# Altium footprint library BRye_PCBLib.PcbLib: 45 footprints (part 2 of 3)
Each footprint in its own frame and in the unit in brackets; x right, y up, seen from the top. Pads: shape width x height; smd on the part's side, far side on the other; paste and mask are expansions set on the pad; w line width, h text height; cw(c..) or ccw(c..) is an arc to the next point about the centre after c.
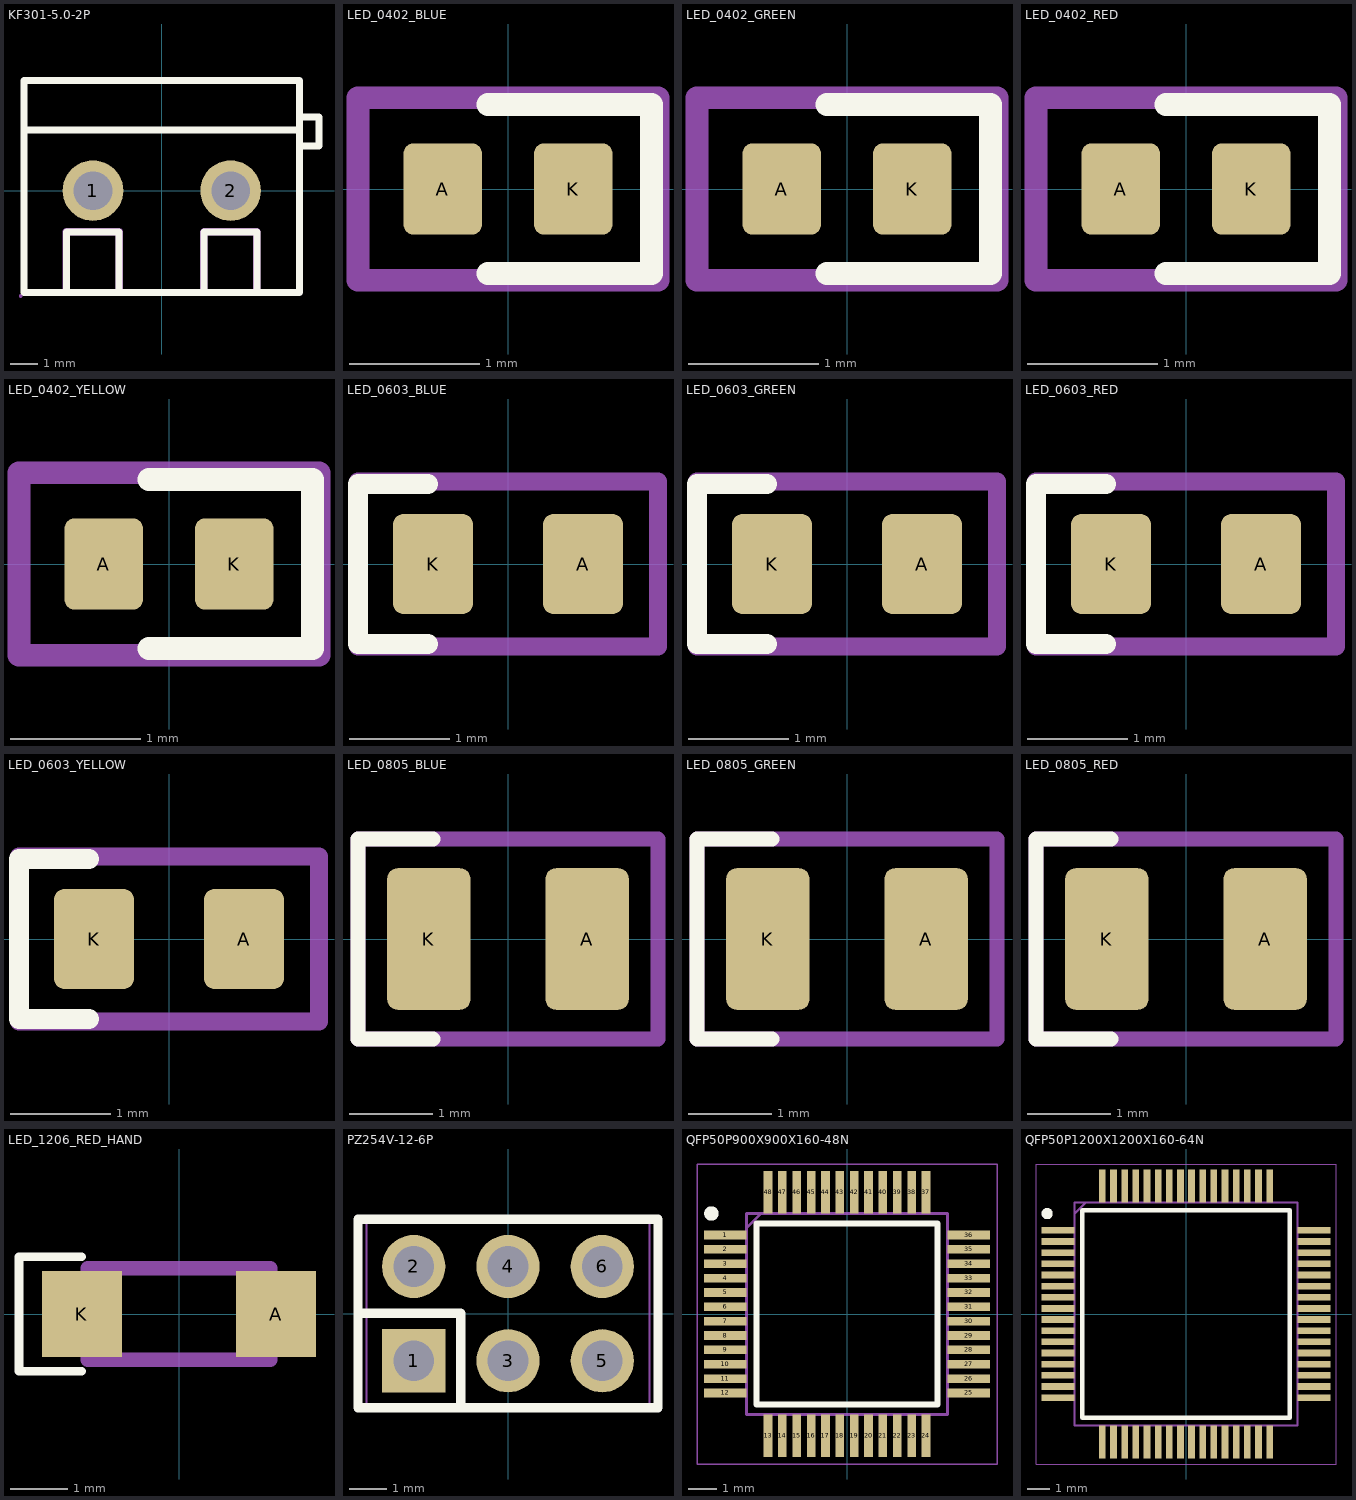
[diagram p1: the footprints below, top view; thin cyan lines are the x and y axes]

## KF301-5.0-2P [mm]
pads (2):
  round 2.2 hole 1.4 paste-2539.97 mask+0.05: 1(-2.5,0) 2(2.5,0)
Top Overlay:
  lines w0.254: -5,2.201 5,2.201 ; -3.469,-3.701 -3.469,-1.501 -1.549,-1.501 -1.549,-3.701 ; 1.53,-3.7 1.53,-1.5 3.45,-1.5 3.45,-3.7 ; 5.08,1.626 5.708,1.626 5.708,2.667 5.08,2.667 ; -5,-3.7 -5,4 5,4 5,-3.7 -5,-3.7
Mechanical 6:
  region: -3.596,-3.701 -3.596,-1.501 -3.596,-1.476 -3.577,-1.429 -3.541,-1.393 -3.494,-1.374 -3.469,-1.374 -1.549,-1.374 -1.523,-1.374 -1.477,-1.393 -1.441,-1.429 -1.422,-1.476 -1.422,-1.501 -1.422,-3.701 -1.422,-3.753 -1.496,-3.828 -1.601,-3.828 -1.676,-3.753 -1.676,-3.701 -1.676,-1.628 -3.342,-1.628 -3.342,-3.701 -3.342,-3.753 -3.416,-3.828 -3.522,-3.828 -3.596,-3.753
  region: 1.404,-3.701 1.404,-1.501 1.404,-1.476 1.423,-1.429 1.459,-1.394 1.506,-1.374 1.531,-1.374 3.451,-1.374 3.477,-1.374 3.523,-1.394 3.559,-1.429 3.578,-1.476 3.578,-1.501 3.578,-3.701 3.578,-3.753 3.504,-3.828 3.399,-3.828 3.324,-3.753 3.324,-3.701 3.324,-1.628 1.658,-1.628 1.658,-3.701 1.658,-3.753 1.584,-3.828 1.479,-3.828 1.404,-3.753
Mechanical 15:
  region: -5.067,-3.827 -5.067,-3.852 -5.102,-3.887 -5.152,-3.887 -5.187,-3.852 -5.187,-3.827 -5.187,-3.802 -5.152,-3.767 -5.102,-3.767 -5.067,-3.802
  region: 3,0 3,-0.099 2.924,-0.283 2.783,-0.424 2.599,-0.5 2.401,-0.5 2.217,-0.424 2.076,-0.283 2,-0.099 2,0 2,0.099 2.076,0.283 2.217,0.424 2.401,0.5 2.599,0.5 2.783,0.424 2.924,0.283 3,0.099
  region: -2,0 -2,-0.099 -2.076,-0.283 -2.217,-0.424 -2.401,-0.5 -2.599,-0.5 -2.783,-0.424 -2.924,-0.283 -3,-0.099 -3,0 -3,0.099 -2.924,0.283 -2.783,0.424 -2.599,0.5 -2.401,0.5 -2.217,0.424 -2.076,0.283 -2,0.099
  lines w0.051: -5,-3.6 -5,4 5,4 5,-3.6 -5,-3.6
3D body "KF301-5.0-2P--3DModel-STEP-510211.STEP": height 10, standoff -3.9, extent -5,-3.6 5,4

## LED_0402_BLUE [mm]
pads (2):
  rrect25% 0.6x0.7 smd: A(-0.5,0) K(0.5,0)
Top Overlay:
  lines w0.175: -0.153,-0.647 1.1,-0.647 1.1,0.647 -0.153,0.647
Top Assembly:
  lines w0.175: -1.15,-0.7 1.15,-0.7 1.15,0.7 -1.15,0.7 -1.15,-0.7
  text "'.Designator'" at -5.665,-0.29 h1
  text "+" at -1.883,0.508 h0.5
3D body "LED0402-Blue.step": height 0.45, standoff 0, extent -0.505,-0.25 0.505,0.25

## LED_0402_GREEN [mm]
pads (2):
  rrect25% 0.6x0.7 smd: A(-0.5,0) K(0.5,0)
Top Overlay:
  lines w0.175: -0.153,-0.647 1.1,-0.647 1.1,0.647 -0.153,0.647
Top Assembly:
  lines w0.175: -1.15,-0.7 1.15,-0.7 1.15,0.7 -1.15,0.7 -1.15,-0.7
  text "+" at -1.883,0.508 h0.5
  text "'.Designator'" at -5.665,-0.29 h1
3D body "LED0402-Green.step": height 0.45, standoff 0, extent -0.505,-0.25 0.505,0.25

## LED_0402_RED [mm]
pads (2):
  rrect25% 0.6x0.7 smd: A(-0.5,0) K(0.5,0)
Top Overlay:
  lines w0.175: -0.153,-0.647 1.1,-0.647 1.1,0.647 -0.153,0.647
Top Assembly:
  lines w0.175: -1.15,-0.7 1.15,-0.7 1.15,0.7 -1.15,0.7 -1.15,-0.7
  text "'.Designator'" at -5.665,-0.29 h1
  text "+" at -1.883,0.508 h0.5
3D body "LED0402-Red.step": height 0.45, standoff 0, extent -0.505,-0.25 0.505,0.25

## LED_0402_YELLOW [mm]
pads (2):
  rrect25% 0.6x0.7 smd: A(-0.5,0) K(0.5,0)
Top Overlay:
  lines w0.175: -0.153,-0.647 1.1,-0.647 1.1,0.647 -0.153,0.647
Top Assembly:
  lines w0.175: -1.15,-0.7 -1.15,0.7 1.15,0.7 1.15,-0.7 -1.15,-0.7
  text "+" at -1.883,0.508 h0.5
  text "'.Designator'" at -5.665,-0.29 h1
3D body "LED0402-Yellow.step": height 0.45, standoff 0, extent -0.505,-0.25 0.505,0.25

## LED_0603_BLUE [mm]
pads (2):
  rrect25% 0.8x1 smd: A(0.75,0) K(-0.75,0)
Top Overlay:
  lines w0.2: -0.8,-0.8 -1.5,-0.8 -1.5,0.8 -0.8,0.8
Top Assembly:
  lines w0.175: -1.5,-0.825 -1.5,0.825 1.5,0.825 1.5,-0.825 -1.5,-0.825
  text "'.Designator'" at -5.665,-0.417 h1
  text "+" at 1.317,0.608 h0.5
3D body "LED_0603_BLUE.step": height 0.6, standoff 0, extent -0.8,-0.4 0.8,0.4

## LED_0603_GREEN [mm]
pads (2):
  rrect25% 0.8x1 smd: A(0.75,0) K(-0.75,0)
Top Overlay:
  lines w0.2: -0.8,-0.8 -1.5,-0.8 -1.5,0.8 -0.8,0.8
Top Assembly:
  lines w0.175: -1.5,-0.825 -1.5,0.825 1.5,0.825 1.5,-0.825 -1.5,-0.825
  text "+" at 1.317,0.608 h0.5
  text "'.Designator'" at -5.665,-0.417 h1
3D body "LED_0603_GREEN.step": height 0.6, standoff 0, extent -0.8,-0.4 0.8,0.4

## LED_0603_RED [mm]
pads (2):
  rrect25% 0.8x1 smd: A(0.75,0) K(-0.75,0)
Top Overlay:
  lines w0.2: -0.8,-0.8 -1.5,-0.8 -1.5,0.8 -0.8,0.8
Top Assembly:
  lines w0.175: -1.5,-0.825 -1.5,0.825 1.5,0.825 1.5,-0.825 -1.5,-0.825
  text "+" at 1.317,0.608 h0.5
  text "'.Designator'" at -5.665,-0.417 h1
3D body "LED_0603_RED.step": height 0.6, standoff 0, extent -0.8,-0.4 0.8,0.4

## LED_0603_YELLOW [mm]
pads (2):
  rrect25% 0.8x1 smd: A(0.75,0) K(-0.75,0)
Top Overlay:
  lines w0.2: -0.8,-0.8 -1.5,-0.8 -1.5,0.8 -0.8,0.8
Top Assembly:
  lines w0.175: -1.5,-0.825 -1.5,0.825 1.5,0.825 1.5,-0.825 -1.5,-0.825
  text "'.Designator'" at -5.665,-0.417 h1
  text "+" at 1.317,0.608 h0.5
3D body "LED_0603_YELLOW.step": height 0.6, standoff 0, extent -0.8,-0.4 0.8,0.4

## LED_0805_BLUE [mm]
pads (2):
  rrect25% 1x1.7 smd: A(0.95,0) K(-0.95,0)
Top Overlay:
  lines w0.175: -0.9,-1.2 -1.8,-1.2 -1.8,1.2 -0.9,1.2
Top Assembly:
  lines w0.175: -1.8,-1.2 -1.8,1.2 1.8,1.2 1.8,-1.2 -1.8,-1.2
  text "+" at 1.767,1 h1
  text "'.Designator'" at -5.665,-0.417 h1
3D body "LED_0805_BLUE.step": height 1.12, standoff 0.01, extent -1,-0.625 1,0.625

## LED_0805_GREEN [mm]
pads (2):
  rrect25% 1x1.7 smd: A(0.95,0) K(-0.95,0)
Top Overlay:
  lines w0.175: -0.9,-1.2 -1.8,-1.2 -1.8,1.2 -0.9,1.2
Top Assembly:
  lines w0.175: -1.8,-1.2 -1.8,1.2 1.8,1.2 1.8,-1.2 -1.8,-1.2
  text "+" at 1.767,1 h1
  text "'.Designator'" at -5.665,-0.417 h1
3D body "LED_0805_GREEN.step": height 1.12, standoff 0.01, extent -1,-0.625 1,0.625

## LED_0805_RED [mm]
pads (2):
  rrect25% 1x1.7 smd: A(0.95,0) K(-0.95,0)
Top Overlay:
  lines w0.175: -0.9,-1.2 -1.8,-1.2 -1.8,1.2 -0.9,1.2
Top Assembly:
  lines w0.175: -1.8,-1.2 1.8,-1.2 1.8,1.2 -1.8,1.2 -1.8,-1.2
  text "'.Designator'" at -5.665,-0.417 h1
  text "+" at 1.767,1 h1
3D body "LED_0805_GREEN.step": height 1.12, standoff 0.01, extent -1,-0.625 1,0.625

## LED_1206_RED_HAND [mm]
pads (2):
  rect 1.4x1.5 smd: A(1.7,0) K(-1.7,0)
Top Overlay:
  lines w0.15: -1.7,-1 -2.8,-1 -2.8,1 -1.7,1
Top Courtyard:
  lines w0.254: -1.6,-0.8 1.6,-0.8 1.6,0.8 -1.6,0.8 -1.6,-0.8

## PZ254V-12-6P [mm]
pads (6):
  rect 1.7x1.7 hole 1.1: 1(-2.54,-1.27)
  round 1.7 hole 1.1: 2(-2.54,1.27) 3(0,-1.27) 4(0,1.27) 5(2.54,-1.27) 6(2.54,1.27)
Top Overlay:
  lines w0.254: -4.04,0.007 -1.27,0.007 -1.27,-2.54 ; -4.04,-2.54 4.04,-2.54 4.04,2.54 -4.04,2.54 -4.04,-2.54
Mechanical 15:
  region: -3.75,-2.5 -3.75,-2.525 -3.785,-2.56 -3.835,-2.56 -3.87,-2.525 -3.87,-2.5 -3.87,-2.475 -3.835,-2.44 -3.785,-2.44 -3.75,-2.475
  region: 2.22,1.59 2.86,1.59 2.86,0.95 2.22,0.95
  region: 2.22,-0.95 2.86,-0.95 2.86,-1.59 2.22,-1.59
  region: -0.32,1.59 0.32,1.59 0.32,0.95 -0.32,0.95
  region: -0.32,-0.95 0.32,-0.95 0.32,-1.59 -0.32,-1.59
  region: -2.86,1.59 -2.22,1.59 -2.22,0.95 -2.86,0.95
  region: -2.86,-0.95 -2.22,-0.95 -2.22,-1.59 -2.86,-1.59
  lines w0.051: -3.81,-2.5 -3.81,2.5 3.81,2.5 3.81,-2.5 -3.81,-2.5

## QFP50P900X900X160-48N [mm]
pads (48):
  rect 1.475x0.3 smd: 1(-4.238,2.75) 2(-4.238,2.25) 3(-4.238,1.75) 4(-4.238,1.25) 5(-4.238,0.75) 6(-4.238,0.25) 7(-4.238,-0.25) 8(-4.238,-0.75) 9(-4.238,-1.25) 10(-4.238,-1.75) 11(-4.238,-2.25) 12(-4.238,-2.75) 25(4.238,-2.75) 26(4.238,-2.25) 27(4.238,-1.75) 28(4.238,-1.25) 29(4.238,-0.75) 30(4.238,-0.25) 31(4.238,0.25) 32(4.238,0.75) 33(4.238,1.25) 34(4.238,1.75) 35(4.238,2.25) 36(4.238,2.75)
  rect 0.3x1.475 smd: 13(-2.75,-4.238) 14(-2.25,-4.238) 15(-1.75,-4.238) 16(-1.25,-4.238) 17(-0.75,-4.238) 18(-0.25,-4.238) 19(0.25,-4.238) 20(0.75,-4.238) 21(1.25,-4.238) 22(1.75,-4.238) 23(2.25,-4.238) 24(2.75,-4.238) 37(2.75,4.238) 38(2.25,4.238) 39(1.75,4.238) 40(1.25,4.238) 41(0.75,4.238) 42(0.25,4.238) 43(-0.25,4.238) 44(-0.75,4.238) 45(-1.25,4.238) 46(-1.75,4.238) 47(-2.25,4.238) 48(-2.75,4.238)
Top Overlay:
  circle w0.25: c-4.725,3.5 r0.125
  lines w0.2: -3.15,-3.15 -3.15,3.15 3.15,3.15 3.15,-3.15 -3.15,-3.15
Top Assembly:
  lines w0.1: -3.5,3 -3,3.5 ; -3.5,-3.5 -3.5,3.5 3.5,3.5 3.5,-3.5 -3.5,-3.5
Mechanical 15:
  lines w0.05: -5.225,-5.225 -5.225,5.225 5.225,5.225 5.225,-5.225 -5.225,-5.225
3D body "STM32G474CBT6TR.stp": height 1.6, standoff 0, extent -4.5,-4.5 4.5,4.5

## QFP50P1200X1200X160-64N [mm]
pads (64):
  rect 1.475x0.3 smd: 1(-5.738,3.75) 2(-5.738,3.25) 3(-5.738,2.75) 4(-5.738,2.25) 5(-5.738,1.75) 6(-5.738,1.25) 7(-5.738,0.75) 8(-5.738,0.25) 9(-5.738,-0.25) 10(-5.738,-0.75) 11(-5.738,-1.25) 12(-5.738,-1.75) 13(-5.738,-2.25) 14(-5.738,-2.75) 15(-5.738,-3.25) 16(-5.738,-3.75) 33(5.738,-3.75) 34(5.738,-3.25) 35(5.738,-2.75) 36(5.738,-2.25) 37(5.738,-1.75) 38(5.738,-1.25) 39(5.738,-0.75) 40(5.738,-0.25) 41(5.738,0.25) 42(5.738,0.75) 43(5.738,1.25) 44(5.738,1.75) 45(5.738,2.25) 46(5.738,2.75) 47(5.738,3.25) 48(5.738,3.75)
  rect 0.3x1.475 smd: 17(-3.75,-5.738) 18(-3.25,-5.738) 19(-2.75,-5.738) 20(-2.25,-5.738) 21(-1.75,-5.738) 22(-1.25,-5.738) 23(-0.75,-5.738) 24(-0.25,-5.738) 25(0.25,-5.738) 26(0.75,-5.738) 27(1.25,-5.738) 28(1.75,-5.738) 29(2.25,-5.738) 30(2.75,-5.738) 31(3.25,-5.738) 32(3.75,-5.738) 49(3.75,5.738) 50(3.25,5.738) 51(2.75,5.738) 52(2.25,5.738) 53(1.75,5.738) 54(1.25,5.738) 55(0.75,5.738) 56(0.25,5.738) 57(-0.25,5.738) 58(-0.75,5.738) 59(-1.25,5.738) 60(-1.75,5.738) 61(-2.25,5.738) 62(-2.75,5.738) 63(-3.25,5.738) 64(-3.75,5.738)
Top Overlay:
  circle w0.25: c-6.225,4.5 r0.125
  lines w0.2: -4.65,-4.65 4.65,-4.65 4.65,4.65 -4.65,4.65 -4.65,-4.65
Top Assembly:
  lines w0.1: -5,4.5 -4.5,5 ; -5,-5 5,-5 5,5 -5,5 -5,-5
Mechanical 15:
  lines w0.05: -6.725,-6.725 6.725,-6.725 6.725,6.725 -6.725,6.725 -6.725,-6.725
3D body "STM32F722RET6.stp": height 1.6, standoff 0, extent -6,-6 6,6